# Altium footprint library SOP65P200X125-5N.PcbLib: 1 footprints
Each footprint in its own frame and in the unit in brackets; x right, y up, seen from the top. Pads: shape width x height; smd on the part's side, far side on the other; paste and mask are expansions set on the pad; w line width, h text height; cw(c..) or ccw(c..) is an arc to the next point about the centre after c.
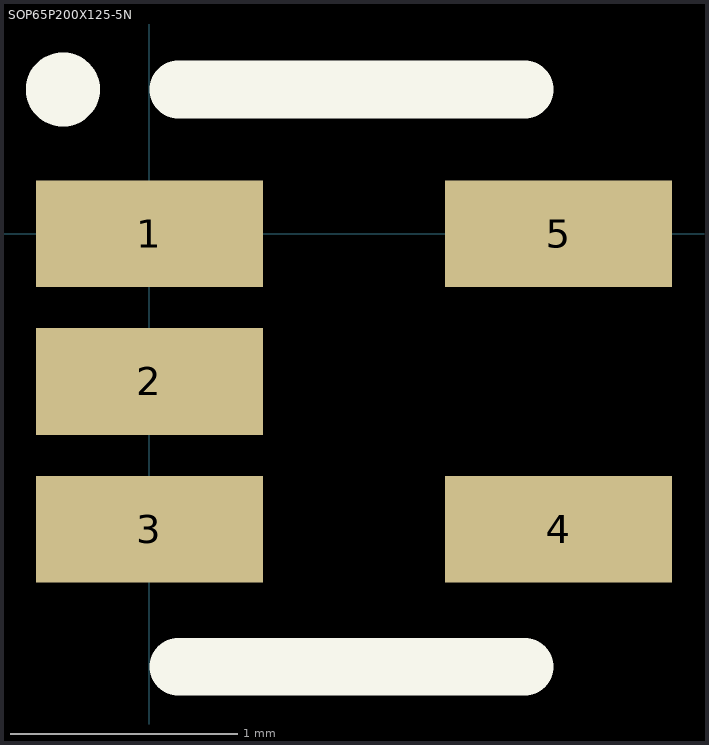
[diagram p0: the footprint, top view; thin cyan lines are the x and y axes]

## SOP65P200X125-5N [mm] "SOP + Pitch P + Lead Span Nominal X Height - #Pins"
height 1.25
pads (5):
  rect 1x0.47 smd: 1(0,0) 2(0,-0.65) 3(0,-1.3) 4(1.8,-1.3) 5(1.8,0)
Top Overlay:
  circle w0.254: c-0.381,0.635 r0.036
  lines w0.254: 0.127,-1.905 1.651,-1.905 ; 0.127,0.635 1.651,0.635
3D body: height 0.25, standoff 0, extent 1.016,1.016 1.016,1.016
3D body "KS_5.stp": height 1.7, standoff 0, extent -0.305,-1.74 2.083,0.47